# Altium schematic symbol library L7905CV.SchLib: 1 symbol
Pins are listed as number, name and electrical type; pins without a type are passive.

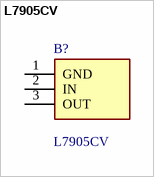
[diagram p0: symbol L7905CV]

## L7905CV
designator B?
L7905CV, Voltage Regulator, Negative 1.5A -5 V, 3-Pin TO-220; Manufacturer_Name: STMicroelectronics; Geometry.Height: 4.6mm; Mouser Part Number: 511-L7905CV; Mouser Price/Stock: https://www.mouser.co.uk/ProductDetail/STMicroelectronics/L7905CV?qs=bZskSr8d5Y8JqSs%2FnmNLHA%3D%3D; Manufacturer_Part_Number: L7905CV; Datasheet Link: http://www.st.com/web/en/resource/technical/document/datasheet/CD00000450.pdf
footprint TO270P460X1020X2008-3P
pins: 1 GND (power), 2 IN (power), 3 OUT (power)